# Altium footprint library SparkFun-Connectors.PCBLIB: 309 footprints (part 8 of 20)
Each footprint in its own frame and in the unit in brackets; x right, y up, seen from the top. Pads: shape width x height; smd on the part's side, far side on the other; paste and mask are expansions set on the pad; w line width, h text height; cw(c..) or ccw(c..) is an arc to the next point about the centre after c.
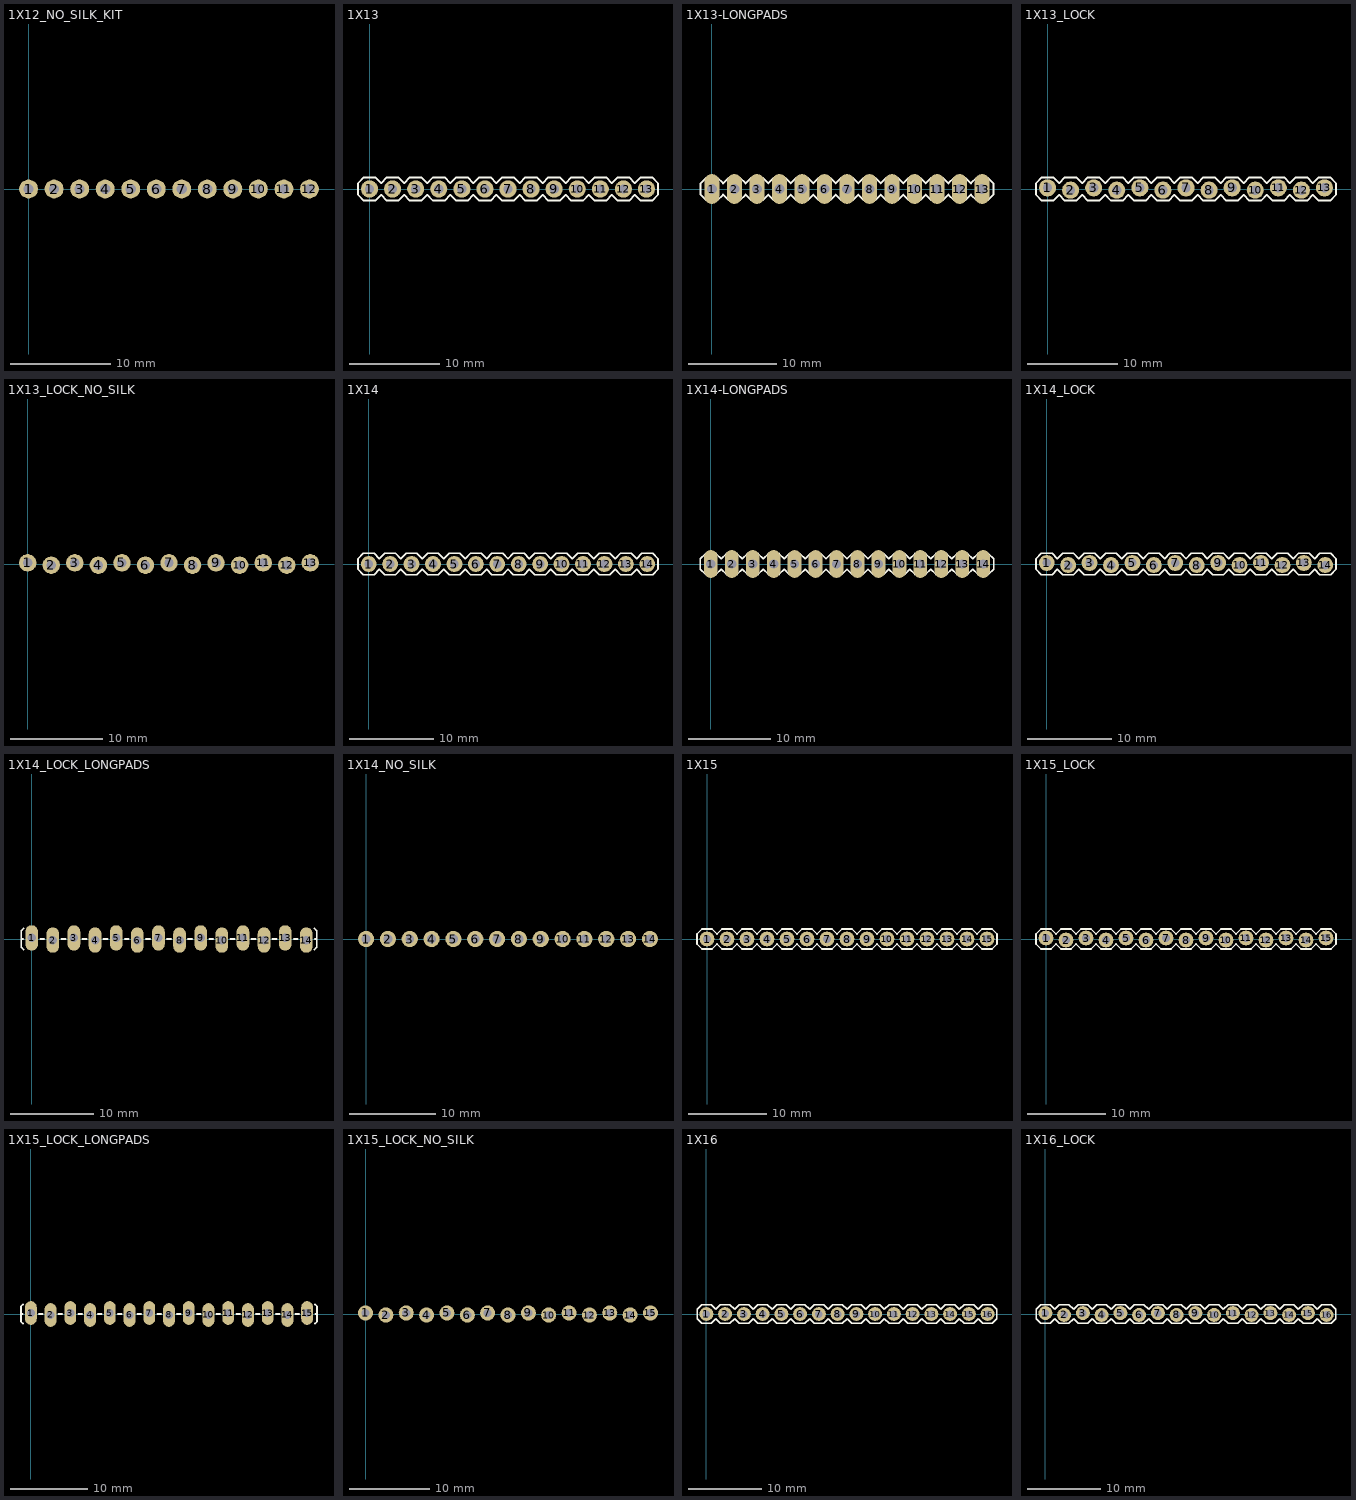
[diagram p7: the footprints below, top view; thin cyan lines are the x and y axes]

## 1X12_NO_SILK_KIT [mil]
pads (12):
  round 74 hole 40: 1(0,0) 2(100,0) 3(200,0) 4(300,0) 5(400,0) 6(500,0) 7(600,0) 8(700,0) 9(800,0) 10(900,0) 11(1000,0) 12(1100,0)
Top Solder:
  circle w0: c0,0 r20
  circle w0: c100,0 r20
  circle w0: c200,0 r20
  circle w0: c300,0 r20
  circle w0: c400,0 r20
  circle w0: c500,0 r20
  circle w0: c600,0 r20
  circle w0: c700,0 r20
  circle w0: c800,0 r20
  circle w0: c900,0 r20
  circle w0: c1000,0 r20
  circle w0: c1100,0 r20
Bottom Solder:
  circle w0: c0,0 r37.5
  circle w0: c100,0 r37.5
  circle w0: c200,0 r37.5
  circle w0: c300,0 r37.5
  circle w0: c400,0 r37.5
  circle w0: c500,0 r37.5
  circle w0: c600,0 r37.5
  circle w0: c700,0 r37.5
  circle w0: c800,0 r37.5
  circle w0: c900,0 r37.5
  circle w0: c1000,0 r37.5
  circle w0: c1100,0 r37.5

## 1X13 [mil]
pads (13):
  round 74 hole 40: 1(0,0) 2(100,0) 3(200,0) 4(300,0) 5(400,0) 6(500,0) 7(600,0) 8(700,0) 9(800,0) 10(900,0) 11(1000,0) 12(1100,0) 13(1200,0)
Top Overlay:
  lines w8: -50,-25 -50,25 -25,50 25,50 50,25 75,50 125,50 150,25 175,50 225,50 250,25 275,50 325,50 350,25 375,50 425,50 450,25 475,50 525,50 550,25 575,50 625,50 650,25 675,50 725,50 750,25 775,50 825,50 850,25 875,50 925,50 950,25 975,50 1025,50 1050,25 1075,50 1125,50 1150,25 1175,50 1225,50 1250,25 1250,-25 1225,-50 1175,-50 1150,-25 1125,-50 1075,-50 1050,-25 1025,-50 975,-50 950,-25 925,-50 875,-50 850,-25 825,-50 775,-50 750,-25 725,-50 675,-50 650,-25 625,-50 575,-50 550,-25 525,-50 475,-50 450,-25 425,-50 375,-50 350,-25 325,-50 275,-50 250,-25 225,-50 175,-50 150,-25 125,-50 75,-50 50,-25 25,-50 -25,-50 -50,-25
Mechanical 16:
  rectangle: 590,-10 610,10
  rectangle: 490,-10 510,10
  rectangle: 390,-10 410,10
  rectangle: 290,-10 310,10
  rectangle: 190,-10 210,10
  rectangle: 90,-10 110,10
  rectangle: -10,-10 10,10
  rectangle: 1190,-10 1210,10
  rectangle: 1090,-10 1110,10
  rectangle: 990,-10 1010,10
  rectangle: 890,-10 910,10
  rectangle: 790,-10 810,10
  rectangle: 690,-10 710,10

## 1X13-LONGPADS [mil]
pads (13):
  oval 66x132 hole 44: 1(0,0) 2(100,0) 3(200,0) 4(300,0) 5(400,0) 6(500,0) 7(600,0) 8(700,0) 9(800,0) 10(900,0) 11(1000,0) 12(1100,0) 13(1200,0)
Top Overlay:
  lines w8: -25,-50 -50,-25 -50,25 -25,50 ; 25,-50 50,-25 75,-50 ; 25,50 50,25 75,50 ; 125,-50 150,-25 175,-50 ; 125,50 150,25 175,50 ; 225,-50 250,-25 275,-50 ; 225,50 250,25 275,50 ; 325,-50 350,-25 375,-50 ; 325,50 350,25 375,50 ; 425,-50 450,-25 475,-50 ; 425,50 450,25 475,50 ; 525,-50 550,-25 575,-50 ; 525,50 550,25 575,50 ; 625,-50 650,-25 675,-50 ; 625,50 650,25 675,50 ; 725,-50 750,-25 775,-50 ; 725,50 750,25 775,50 ; 825,-50 850,-25 875,-50 ; 825,50 850,25 875,50 ; 925,-50 950,-25 975,-50 ; 925,50 950,25 975,50 ; 1025,-50 1050,-25 1075,-50 ; 1025,50 1050,25 1075,50 ; 1125,-50 1150,-25 1175,-50 ; 1125,50 1150,25 1175,50 ; 1225,-50 1250,-25 1250,25 1225,50
Mechanical 16:
  rectangle: 590,-10 610,10
  rectangle: 490,-10 510,10
  rectangle: 390,-10 410,10
  rectangle: 290,-10 310,10
  rectangle: 190,-10 210,10
  rectangle: 90,-10 110,10
  rectangle: -10,-10 10,10
  rectangle: 1190,-10 1210,10
  rectangle: 1090,-10 1110,10
  rectangle: 990,-10 1010,10
  rectangle: 890,-10 910,10
  rectangle: 790,-10 810,10
  rectangle: 690,-10 710,10

## 1X13_LOCK [mil]
pads (13):
  round 74 hole 40: 1(0,5) 2(100,-5) 3(200,5) 4(300,-5) 5(400,5) 6(500,-5) 7(600,5) 8(700,-5) 9(800,5) 10(900,-5) 11(1000,5) 12(1100,-5) 13(1200,5)
Top Overlay:
  lines w8: -50,-25 -50,25 -25,50 25,50 50,25 75,50 125,50 150,25 175,50 225,50 250,25 275,50 325,50 350,25 375,50 425,50 450,25 475,50 525,50 550,25 575,50 625,50 650,25 675,50 725,50 750,25 775,50 825,50 850,25 875,50 925,50 950,25 975,50 1025,50 1050,25 1075,50 1125,50 1150,25 1175,50 1225,50 1250,25 1250,-25 1225,-50 1175,-50 1150,-25 1125,-50 1075,-50 1050,-25 1025,-50 975,-50 950,-25 925,-50 875,-50 850,-25 825,-50 775,-50 750,-25 725,-50 675,-50 650,-25 625,-50 575,-50 550,-25 525,-50 475,-50 450,-25 425,-50 375,-50 350,-25 325,-50 275,-50 250,-25 225,-50 175,-50 150,-25 125,-50 75,-50 50,-25 25,-50 -25,-50 -50,-25
Mechanical 16:
  rectangle: 590,-10 610,10
  region: 510,-10 510,10 490,10 490,-10
  rectangle: 390,-10 410,10
  rectangle: 290,-10 310,10
  rectangle: 190,-10 210,10
  rectangle: 90,-10 110,10
  rectangle: -10,-10 10,10
  rectangle: 690,-10 710,10
  rectangle: 790,-10 810,10
  rectangle: 890,-10 910,10
  rectangle: 990,-10 1010,10
  rectangle: 1090,-10 1110,10
  rectangle: 1190,-10 1210,10

## 1X13_LOCK_NO_SILK [mil]
pads (13):
  round 74 hole 40: 1(0,5) 2(100,-5) 3(200,5) 4(300,-5) 5(400,5) 6(500,-5) 7(600,5) 8(700,-5) 9(800,5) 10(900,-5) 11(1000,5) 12(1100,-5) 13(1200,5)
Mechanical 16:
  rectangle: 590,-10 610,10
  region: 510,-10 510,10 490,10 490,-10
  rectangle: 390,-10 410,10
  rectangle: 290,-10 310,10
  rectangle: 190,-10 210,10
  rectangle: 90,-10 110,10
  rectangle: -10,-10 10,10
  rectangle: 690,-10 710,10
  rectangle: 790,-10 810,10
  rectangle: 890,-10 910,10
  rectangle: 990,-10 1010,10
  rectangle: 1090,-10 1110,10
  rectangle: 1190,-10 1210,10

## 1X14 [mil]
pads (14):
  round 74 hole 40: 1(0,0) 2(100,0) 3(200,0) 4(300,0) 5(400,0) 6(500,0) 7(600,0) 8(700,0) 9(800,0) 10(900,0) 11(1000,0) 12(1100,0) 13(1200,0) 14(1300,0)
Top Overlay:
  lines w8: -50,-25 -50,25 -25,50 25,50 50,25 75,50 125,50 150,25 175,50 225,50 250,25 275,50 325,50 350,25 375,50 425,50 450,25 475,50 525,50 550,25 575,50 625,50 650,25 675,50 725,50 750,25 775,50 825,50 850,25 875,50 925,50 950,25 975,50 1025,50 1050,25 1075,50 1125,50 1150,25 1175,50 1225,50 1250,25 1275,50 1325,50 1350,25 1350,-25 1325,-50 1275,-50 1250,-25 1225,-50 1175,-50 1150,-25 1125,-50 1075,-50 1050,-25 1025,-50 975,-50 950,-25 925,-50 875,-50 850,-25 825,-50 775,-50 750,-25 725,-50 675,-50 650,-25 625,-50 575,-50 550,-25 525,-50 475,-50 450,-25 425,-50 375,-50 350,-25 325,-50 275,-50 250,-25 225,-50 175,-50 150,-25 125,-50 75,-50 50,-25 25,-50 -25,-50 -50,-25
Mechanical 16:
  rectangle: 590,-10 610,10
  rectangle: 490,-10 510,10
  rectangle: 390,-10 410,10
  rectangle: 290,-10 310,10
  rectangle: 190,-10 210,10
  rectangle: 90,-10 110,10
  rectangle: -10,-10 10,10
  rectangle: 1290,-10 1310,10
  rectangle: 1190,-10 1210,10
  rectangle: 1090,-10 1110,10
  rectangle: 990,-10 1010,10
  rectangle: 890,-10 910,10
  rectangle: 790,-10 810,10
  rectangle: 690,-10 710,10

## 1X14-LONGPADS [mil]
pads (14):
  oval 66x132 hole 44: 1(0,0) 2(100,0) 3(200,0) 4(300,0) 5(400,0) 6(500,0) 7(600,0) 8(700,0) 9(800,0) 10(900,0) 11(1000,0) 12(1100,0) 13(1200,0) 14(1300,0)
Top Overlay:
  lines w8: -25,-50 -50,-25 -50,25 -25,50 ; 25,-50 50,-25 75,-50 ; 25,50 50,25 75,50 ; 125,-50 150,-25 175,-50 ; 125,50 150,25 175,50 ; 225,-50 250,-25 275,-50 ; 225,50 250,25 275,50 ; 325,-50 350,-25 375,-50 ; 325,50 350,25 375,50 ; 425,-50 450,-25 475,-50 ; 425,50 450,25 475,50 ; 525,-50 550,-25 575,-50 ; 525,50 550,25 575,50 ; 625,-50 650,-25 675,-50 ; 625,50 650,25 675,50 ; 725,-50 750,-25 775,-50 ; 725,50 750,25 775,50 ; 825,-50 850,-25 875,-50 ; 825,50 850,25 875,50 ; 925,-50 950,-25 975,-50 ; 925,50 950,25 975,50 ; 1025,-50 1050,-25 1075,-50 ; 1025,50 1050,25 1075,50 ; 1125,-50 1150,-25 1175,-50 ; 1125,50 1150,25 1175,50 ; 1225,-50 1250,-25 1275,-50 ; 1225,50 1250,25 1275,50 ; 1325,-50 1350,-25 1350,25 1325,50
Mechanical 16:
  rectangle: 590,-10 610,10
  rectangle: 490,-10 510,10
  rectangle: 390,-10 410,10
  rectangle: 290,-10 310,10
  rectangle: 190,-10 210,10
  rectangle: 90,-10 110,10
  rectangle: -10,-10 10,10
  rectangle: 1290,-10 1310,10
  rectangle: 1190,-10 1210,10
  rectangle: 1090,-10 1110,10
  rectangle: 990,-10 1010,10
  rectangle: 890,-10 910,10
  rectangle: 790,-10 810,10
  rectangle: 690,-10 710,10

## 1X14_LOCK [mil]
pads (14):
  round 74 hole 40: 1(0,5) 2(100,-5) 3(200,5) 4(300,-5) 5(400,5) 6(500,-5) 7(600,5) 8(700,-5) 9(800,5) 10(900,-5) 11(1000,5) 12(1100,-5) 13(1200,5) 14(1300,-5)
Top Overlay:
  lines w8: -50,-25 -50,25 -25,50 25,50 50,25 75,50 125,50 150,25 175,50 225,50 250,25 275,50 325,50 350,25 375,50 425,50 450,25 475,50 525,50 550,25 575,50 625,50 650,25 675,50 725,50 750,25 775,50 825,50 850,25 875,50 925,50 950,25 975,50 1025,50 1050,25 1075,50 1125,50 1150,25 1175,50 1225,50 1250,25 1275,50 1325,50 1350,25 1350,-25 1325,-50 1275,-50 1250,-25 1225,-50 1175,-50 1150,-25 1125,-50 1075,-50 1050,-25 1025,-50 975,-50 950,-25 925,-50 875,-50 850,-25 825,-50 775,-50 750,-25 725,-50 675,-50 650,-25 625,-50 575,-50 550,-25 525,-50 475,-50 450,-25 425,-50 375,-50 350,-25 325,-50 275,-50 250,-25 225,-50 175,-50 150,-25 125,-50 75,-50 50,-25 25,-50 -25,-50 -50,-25
Mechanical 16:
  rectangle: 590,-10 610,10
  rectangle: 490,-10 510,10
  rectangle: 390,-10 410,10
  rectangle: 290,-10 310,10
  rectangle: 190,-10 210,10
  rectangle: 90,-10 110,10
  rectangle: -10,-10 10,10
  rectangle: 1290,-10 1310,10
  rectangle: 1190,-10 1210,10
  rectangle: 1090,-10 1110,10
  rectangle: 990,-10 1010,10
  rectangle: 890,-10 910,10
  rectangle: 790,-10 810,10
  rectangle: 690,-10 710,10

## 1X14_LOCK_LONGPADS [mil]
pads (14):
  oval 60x120 hole 40: 1(0,5) 2(100,-5) 3(200,5) 4(300,-5) 5(400,5) 6(500,-5) 7(600,5) 8(700,-5) 9(800,5) 10(900,-5) 11(1000,5) 12(1100,-5) 13(1200,5) 14(1300,-5)
Top Overlay:
  lines w8: -40,0 -50,0 ; -39,-50 -50,-39 -50,0 ; -39,50 -50,39 -50,0 ; 40,0 60,0 ; 140,0 160,0 ; 240,0 260,0 ; 340,0 360,0 ; 440,0 460,0 ; 540,0 560,0 ; 640,0 660,0 ; 740,0 760,0 ; 840,0 860,0 ; 940,0 960,0 ; 1040,0 1060,0 ; 1140,0 1160,0 ; 1240,0 1260,0 ; 1339,-50 1350,-39 1350,0 ; 1339,50 1350,39 1350,0 ; 1340,0 1350,0
Mechanical 16:
  rectangle: -11.5,-11.5 11.5,11.5
  rectangle: 88.5,-11.5 111.5,11.5
  rectangle: 188.5,-11.5 211.5,11.5
  region: 311.5,-11.5 311.5,11.5 288.5,11.5 288.5,-11.5
  rectangle: 388.5,-11.5 411.5,11.5
  rectangle: 488.5,-11.5 511.5,11.5
  rectangle: 588.5,-11.5 611.5,11.5
  rectangle: 688.5,-11.5 711.5,11.5
  rectangle: 788.5,-11.5 811.5,11.5
  region: 911.5,-11.5 911.5,11.5 888.5,11.5 888.5,-11.5
  rectangle: 988.5,-11.5 1011.5,11.5
  rectangle: 1088.5,-11.5 1111.5,11.5
  rectangle: 1188.5,-11.5 1211.5,11.5
  rectangle: 1288.5,-11.5 1311.5,11.5

## 1X14_NO_SILK [mil]
pads (14):
  round 74 hole 40: 1(0,0) 2(100,0) 3(200,0) 4(300,0) 5(400,0) 6(500,0) 7(600,0) 8(700,0) 9(800,0) 10(900,0) 11(1000,0) 12(1100,0) 13(1200,0) 14(1300,0)
Mechanical 16:
  rectangle: 590,-10 610,10
  rectangle: 490,-10 510,10
  rectangle: 390,-10 410,10
  rectangle: 290,-10 310,10
  rectangle: 190,-10 210,10
  rectangle: 90,-10 110,10
  rectangle: -10,-10 10,10
  rectangle: 1290,-10 1310,10
  rectangle: 1190,-10 1210,10
  rectangle: 1090,-10 1110,10
  rectangle: 990,-10 1010,10
  rectangle: 890,-10 910,10
  rectangle: 790,-10 810,10
  rectangle: 690,-10 710,10

## 1X15 [mil]
pads (15):
  round 74 hole 40: 1(0,0) 2(100,0) 3(200,0) 4(300,0) 5(400,0) 6(500,0) 7(600,0) 8(700,0) 9(800,0) 10(900,0) 11(1000,0) 12(1100,0) 13(1200,0) 14(1300,0) 15(1400,0)
Top Overlay:
  lines w8: -50,-25 -50,25 -25,50 25,50 50,25 75,50 125,50 150,25 175,50 225,50 250,25 275,50 325,50 350,25 375,50 425,50 450,25 475,50 525,50 550,25 575,50 625,50 650,25 675,50 725,50 750,25 775,50 825,50 850,25 875,50 925,50 950,25 975,50 1025,50 1050,25 1075,50 1125,50 1150,25 1175,50 1225,50 1250,25 1275,50 1325,50 1350,25 1375,50 1425,50 1450,25 1450,-25 1425,-50 1375,-50 1350,-25 1325,-50 1275,-50 1250,-25 1225,-50 1175,-50 1150,-25 1125,-50 1075,-50 1050,-25 1025,-50 975,-50 950,-25 925,-50 875,-50 850,-25 825,-50 775,-50 750,-25 725,-50 675,-50 650,-25 625,-50 575,-50 550,-25 525,-50 475,-50 450,-25 425,-50 375,-50 350,-25 325,-50 275,-50 250,-25 225,-50 175,-50 150,-25 125,-50 75,-50 50,-25 25,-50 -25,-50 -50,-25
Mechanical 16:
  rectangle: 590,-10 610,10
  rectangle: 490,-10 510,10
  rectangle: 390,-10 410,10
  rectangle: 290,-10 310,10
  rectangle: 190,-10 210,10
  rectangle: 90,-10 110,10
  rectangle: -10,-10 10,10
  rectangle: 1290,-10 1310,10
  rectangle: 1190,-10 1210,10
  rectangle: 1090,-10 1110,10
  rectangle: 990,-10 1010,10
  rectangle: 890,-10 910,10
  rectangle: 790,-10 810,10
  rectangle: 690,-10 710,10
  rectangle: 1390,-10 1410,10

## 1X15_LOCK [mil]
pads (15):
  round 74 hole 40: 1(0,5) 2(100,-5) 3(200,5) 4(300,-5) 5(400,5) 6(500,-5) 7(600,5) 8(700,-5) 9(800,5) 10(900,-5) 11(1000,5) 12(1100,-5) 13(1200,5) 14(1300,-5) 15(1400,5)
Top Overlay:
  lines w8: -50,-25 -50,25 -25,50 25,50 50,25 75,50 125,50 150,25 175,50 225,50 250,25 275,50 325,50 350,25 375,50 425,50 450,25 475,50 525,50 550,25 575,50 625,50 650,25 675,50 725,50 750,25 775,50 825,50 850,25 875,50 925,50 950,25 975,50 1025,50 1050,25 1075,50 1125,50 1150,25 1175,50 1225,50 1250,25 1275,50 1325,50 1350,25 1375,50 1425,50 1450,25 1450,-25 1425,-50 1375,-50 1350,-25 1325,-50 1275,-50 1250,-25 1225,-50 1175,-50 1150,-25 1125,-50 1075,-50 1050,-25 1025,-50 975,-50 950,-25 925,-50 875,-50 850,-25 825,-50 775,-50 750,-25 725,-50 675,-50 650,-25 625,-50 575,-50 550,-25 525,-50 475,-50 450,-25 425,-50 375,-50 350,-25 325,-50 275,-50 250,-25 225,-50 175,-50 150,-25 125,-50 75,-50 50,-25 25,-50 -25,-50 -50,-25
Mechanical 16:
  rectangle: 590,-10 610,10
  rectangle: 490,-10 510,10
  rectangle: 390,-10 410,10
  rectangle: 290,-10 310,10
  rectangle: 190,-10 210,10
  rectangle: 90,-10 110,10
  rectangle: -10,-10 10,10
  rectangle: 1290,-10 1310,10
  rectangle: 1190,-10 1210,10
  rectangle: 1090,-10 1110,10
  rectangle: 990,-10 1010,10
  rectangle: 890,-10 910,10
  rectangle: 790,-10 810,10
  rectangle: 690,-10 710,10
  rectangle: 1390,-10 1410,10

## 1X15_LOCK_LONGPADS [mil]
pads (15):
  oval 60x120 hole 40: 1(0,5) 2(100,-5) 3(200,5) 4(300,-5) 5(400,5) 6(500,-5) 7(600,5) 8(700,-5) 9(800,5) 10(900,-5) 11(1000,5) 12(1100,-5) 13(1200,5) 14(1300,-5) 15(1400,5)
Top Overlay:
  lines w8: -40,0 -50,0 ; -39,-50 -50,-39 -50,0 ; -39,50 -50,39 -50,0 ; 40,0 60,0 ; 140,0 160,0 ; 240,0 260,0 ; 340,0 360,0 ; 440,0 460,0 ; 540,0 560,0 ; 640,0 660,0 ; 740,0 760,0 ; 840,0 860,0 ; 940,0 960,0 ; 1040,0 1060,0 ; 1140,0 1160,0 ; 1240,0 1260,0 ; 1340,0 1360,0 ; 1439,-50 1450,-39 1450,0 ; 1439,50 1450,39 1450,0 ; 1440,0 1450,0
Mechanical 16:
  rectangle: -11.5,-11.5 11.5,11.5
  rectangle: 88.5,-11.5 111.5,11.5
  rectangle: 188.5,-11.5 211.5,11.5
  region: 311.5,-11.5 311.5,11.5 288.5,11.5 288.5,-11.5
  rectangle: 388.5,-11.5 411.5,11.5
  rectangle: 488.5,-11.5 511.5,11.5
  rectangle: 588.5,-11.5 611.5,11.5
  rectangle: 688.5,-11.5 711.5,11.5
  rectangle: 788.5,-11.5 811.5,11.5
  region: 911.5,-11.5 911.5,11.5 888.5,11.5 888.5,-11.5
  rectangle: 988.5,-11.5 1011.5,11.5
  rectangle: 1088.5,-11.5 1111.5,11.5
  rectangle: 1188.5,-11.5 1211.5,11.5
  rectangle: 1288.5,-11.5 1311.5,11.5
  rectangle: 1388.5,-11.5 1411.5,11.5

## 1X15_LOCK_NO_SILK [mil]
pads (15):
  round 74 hole 40: 1(0,5) 2(100,-5) 3(200,5) 4(300,-5) 5(400,5) 6(500,-5) 7(600,5) 8(700,-5) 9(800,5) 10(900,-5) 11(1000,5) 12(1100,-5) 13(1200,5) 14(1300,-5) 15(1400,5)
Mechanical 16:
  rectangle: 590,-10 610,10
  rectangle: 490,-10 510,10
  rectangle: 390,-10 410,10
  rectangle: 290,-10 310,10
  rectangle: 190,-10 210,10
  rectangle: 90,-10 110,10
  rectangle: -10,-10 10,10
  rectangle: 1290,-10 1310,10
  rectangle: 1190,-10 1210,10
  rectangle: 1090,-10 1110,10
  rectangle: 990,-10 1010,10
  rectangle: 890,-10 910,10
  rectangle: 790,-10 810,10
  rectangle: 690,-10 710,10
  rectangle: 1390,-10 1410,10

## 1X16 [mil]
pads (16):
  round 74 hole 40: 1(0,0) 2(100,0) 3(200,0) 4(300,0) 5(400,0) 6(500,0) 7(600,0) 8(700,0) 9(800,0) 10(900,0) 11(1000,0) 12(1100,0) 13(1200,0) 14(1300,0) 15(1400,0) 16(1500,0)
Top Overlay:
  lines w8: -50,-25 -50,25 ; -50,-25 -50,25 ; -50,-25 -25,-50 25,-50 50,-25 75,-50 125,-50 150,-25 175,-50 225,-50 250,-25 275,-50 325,-50 350,-25 375,-50 425,-50 450,-25 475,-50 525,-50 550,-25 575,-50 625,-50 650,-25 675,-50 725,-50 750,-25 775,-50 825,-50 850,-25 875,-50 925,-50 950,-25 975,-50 1025,-50 1050,-25 1075,-50 1125,-50 1150,-25 1175,-50 1225,-50 1250,-25 1275,-50 1325,-50 1350,-25 1375,-50 1425,-50 1450,-25 1475,-50 1525,-50 1550,-25 ; -50,25 -25,50 25,50 50,25 75,50 125,50 150,25 175,50 225,50 250,25 275,50 325,50 350,25 375,50 425,50 450,25 475,50 525,50 550,25 575,50 625,50 650,25 675,50 725,50 750,25 775,50 825,50 850,25 875,50 925,50 950,25 975,50 1025,50 1050,25 1075,50 1125,50 1150,25 1175,50 1225,50 1250,25 1275,50 1325,50 1350,25 1375,50 1425,50 1450,25 1475,50 1525,50 1550,25 ; 1550,-25 1550,25 ; 1550,-25 1550,25
Mechanical 16:
  rectangle: 590,-10 610,10
  rectangle: 490,-10 510,10
  rectangle: 390,-10 410,10
  rectangle: 290,-10 310,10
  rectangle: 190,-10 210,10
  rectangle: 90,-10 110,10
  rectangle: -10,-10 10,10
  rectangle: 1290,-10 1310,10
  rectangle: 1190,-10 1210,10
  rectangle: 1090,-10 1110,10
  rectangle: 990,-10 1010,10
  rectangle: 890,-10 910,10
  rectangle: 790,-10 810,10
  rectangle: 690,-10 710,10
  rectangle: 1390,-10 1410,10
  rectangle: 1490,-10 1510,10

## 1X16_LOCK [mil]
pads (16):
  round 74 hole 40: 1(0,5) 2(100,-5) 3(200,5) 4(300,-5) 5(400,5) 6(500,-5) 7(600,5) 8(700,-5) 9(800,5) 10(900,-5) 11(1000,5) 12(1100,-5) 13(1200,5) 14(1300,-5) 15(1400,5) 16(1500,-5)
Top Overlay:
  lines w8: -50,-25 -50,25 -25,50 25,50 50,25 75,50 125,50 150,25 175,50 225,50 250,25 275,50 325,50 350,25 375,50 425,50 450,25 475,50 525,50 550,25 575,50 625,50 650,25 675,50 725,50 750,25 775,50 825,50 850,25 875,50 925,50 950,25 975,50 1025,50 1050,25 1075,50 1125,50 1150,25 1175,50 1225,50 1250,25 1275,50 1325,50 1350,25 1375,50 1425,50 1450,25 1475,50 1525,50 1550,25 1550,-25 1525,-50 1475,-50 1450,-25 1425,-50 1375,-50 1350,-25 1325,-50 1275,-50 1250,-25 1225,-50 1175,-50 1150,-25 1125,-50 1075,-50 1050,-25 1025,-50 975,-50 950,-25 925,-50 875,-50 850,-25 825,-50 775,-50 750,-25 725,-50 675,-50 650,-25 625,-50 575,-50 550,-25 525,-50 475,-50 450,-25 425,-50 375,-50 350,-25 325,-50 275,-50 250,-25 225,-50 175,-50 150,-25 125,-50 75,-50 50,-25 25,-50 -25,-50 -50,-25
Mechanical 16:
  rectangle: 590,-10 610,10
  rectangle: 490,-10 510,10
  rectangle: 390,-10 410,10
  rectangle: 290,-10 310,10
  rectangle: 190,-10 210,10
  rectangle: 90,-10 110,10
  rectangle: -10,-10 10,10
  rectangle: 1290,-10 1310,10
  rectangle: 1190,-10 1210,10
  rectangle: 1090,-10 1110,10
  rectangle: 990,-10 1010,10
  rectangle: 890,-10 910,10
  rectangle: 790,-10 810,10
  rectangle: 690,-10 710,10
  rectangle: 1390,-10 1410,10
  rectangle: 1490,-10 1510,10